# Altium schematic symbol library GENERIC_JUMPER.SchLib: 1 symbol
Pins are listed as number, name and electrical type; pins without a type are passive.

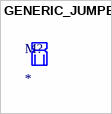
[diagram p0: symbol GENERIC_JUMPER]

## GENERIC_JUMPER
designator M?  (mechanical)